# EAGLE library part CURIENANO_BREAKOUT (library Curie Nano)
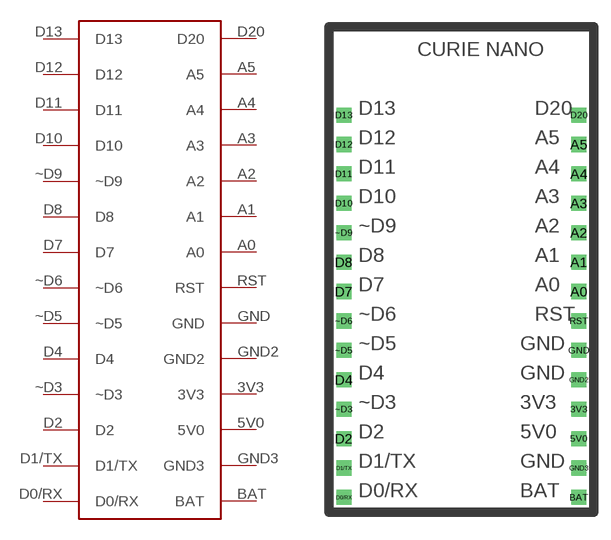
[diagram p0: symbol with the pads of CURIENANO; footprint CURIENANO]

Designator prefix -

## CURIENANO_BREAKOUT  [CURIENANO]
3V3  3V3
5V0  5V0
A0  A0
A1  A1
A2  A2
A3  A3
A4  A4
A5  A5
BAT  BAT
D0/RX  D0/RX
D1/TX  D1/TX
D2  D2
D4  D4
D7  D7
D8  D8
D10  D10
D11  D11
D12  D12
D13  D13
D20  D20
GND  GND
GND2  GND2
GND3  GND3
RST  RST
~D3  ~D3
~D5  ~D5
~D6  ~D6
~D9  ~D9

## Footprint CURIENANO (pad centres in mm)
drill 0.8 square: 3V3 20.32,7.62; 5V0 20.32,5.08; A0 20.32,17.78; A1 20.32,20.32; A2 20.32,22.86; A3 20.32,25.4; A4 20.32,27.94; A5 20.32,30.48; BAT 20.32,0; D0/RX 0,0; D1/TX 0,2.54; D2 0,5.08; D4 0,10.16; D7 0,17.78; D8 0,20.32; D10 0,25.4; D11 0,27.94; D12 0,30.48; D13 0,33.02; D20 20.32,33.02; GND 20.32,12.7; GND2 20.32,10.16; GND3 20.32,2.54; RST 20.32,15.24; ~D3 0,7.62; ~D5 0,12.7; ~D6 0,15.24; ~D9 0,22.86